# EAGLE library part µLCD-32PT (library 4DSystems)
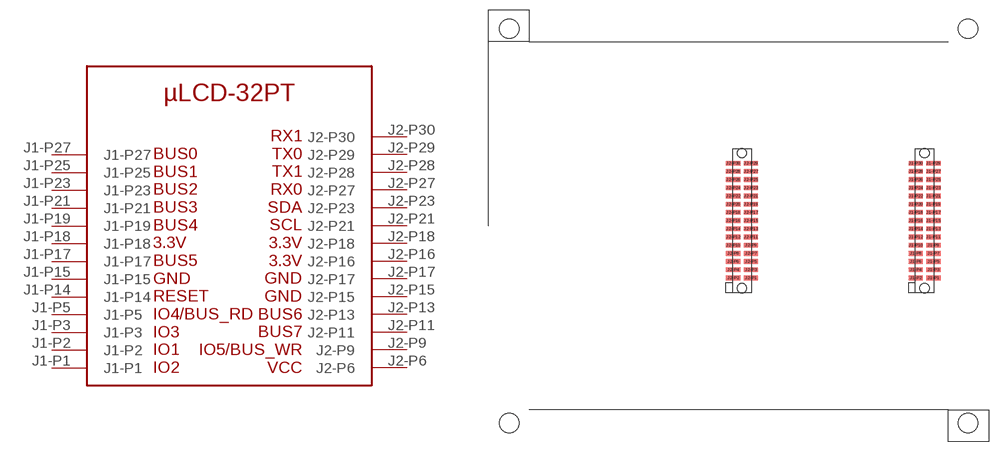
[diagram p0: symbol with the pads of µLCD-32PT; footprint µLCD-32PT]

Designator prefix -

## µLCD-32PT  [µLCD-32PT]
J1-P1  J1-P1
J1-P2  J1-P2
J1-P3  J1-P3
J1-P5  J1-P5
J1-P14  J1-P14  in
J1-P15  J1-P15  pwr
J1-P17  J1-P17
J1-P18  J1-P18  pwr
J1-P19  J1-P19
J1-P21  J1-P21
J1-P23  J1-P23
J1-P25  J1-P25
J1-P27  J1-P27
J2-P6  J2-P6  pwr
J2-P9  J2-P9
J2-P11  J2-P11
J2-P13  J2-P13
J2-P15  J2-P15  pwr
J2-P16  J2-P16  pwr
J2-P17  J2-P17  pwr
J2-P18  J2-P18  pwr
J2-P21  J2-P21  out
J2-P23  J2-P23
J2-P27  J2-P27  in
J2-P28  J2-P28  out
J2-P29  J2-P29  out
J2-P30  J2-P30  in

## Footprint µLCD-32PT (pad centres in mm)
smd 2.223 x 0.737: J1-P1 30.16,-8.075; J1-P2 27.43,-8.075; J1-P3 30.16,-6.805; J1-P4 27.43,-6.805; J1-P5 30.16,-5.535; J1-P6 27.43,-5.535; J1-P7 30.16,-4.265; J1-P8 27.43,-4.265; J1-P9 30.16,-2.995; J1-P10 27.43,-2.995; J1-P11 30.16,-1.725; J1-P12 27.43,-1.725; J1-P13 30.16,-0.455; J1-P14 27.43,-0.455; J1-P15 30.16,0.815; J1-P16 27.43,0.815; J1-P17 30.16,2.085; J1-P18 27.43,2.085; J1-P19 30.16,3.355; J1-P20 27.43,3.355; J1-P21 30.16,4.625; J1-P22 27.43,4.625; J1-P23 30.16,5.895; J1-P24 27.43,5.895; J1-P25 30.16,7.165; J1-P26 27.43,7.165; J1-P27 30.16,8.435; J1-P28 27.43,8.435; J1-P29 30.16,9.705; J1-P30 27.43,9.705; J2-P1 1.89,-8.075; J2-P2 -0.84,-8.075; J2-P3 1.89,-6.805; J2-P4 -0.84,-6.805; J2-P5 1.89,-5.535; J2-P6 -0.84,-5.535; J2-P7 1.89,-4.265; J2-P8 -0.84,-4.265; J2-P9 1.89,-2.995; J2-P10 -0.84,-2.995; J2-P11 1.89,-1.725; J2-P12 -0.84,-1.725; J2-P13 1.89,-0.455; J2-P14 -0.84,-0.455; J2-P15 1.89,0.815; J2-P16 -0.84,0.815; J2-P17 1.89,2.085; J2-P18 -0.84,2.085; J2-P19 1.89,3.355; J2-P20 -0.84,3.355; J2-P21 1.89,4.625; J2-P22 -0.84,4.625; J2-P23 1.89,5.895; J2-P24 -0.84,5.895; J2-P25 1.89,7.165; J2-P26 -0.84,7.165; J2-P27 1.89,8.435; J2-P28 -0.84,8.435; J2-P29 1.89,9.705; J2-P30 -0.84,9.705
hole 3 at 35.5,-30.55
hole 3 at 35.5,30.55
hole 3 at -35.5,30.55
hole 3 at -35.5,-30.55
hole 1.397 at 28.795,-9.662
hole 1.397 at 28.795,11.293
hole 1.397 at 0.525,-9.662
hole 1.397 at 0.525,11.293